# Altium integrated library National Semiconductor Switcher.IntLib: 2226 symbols (part 4 of 59)
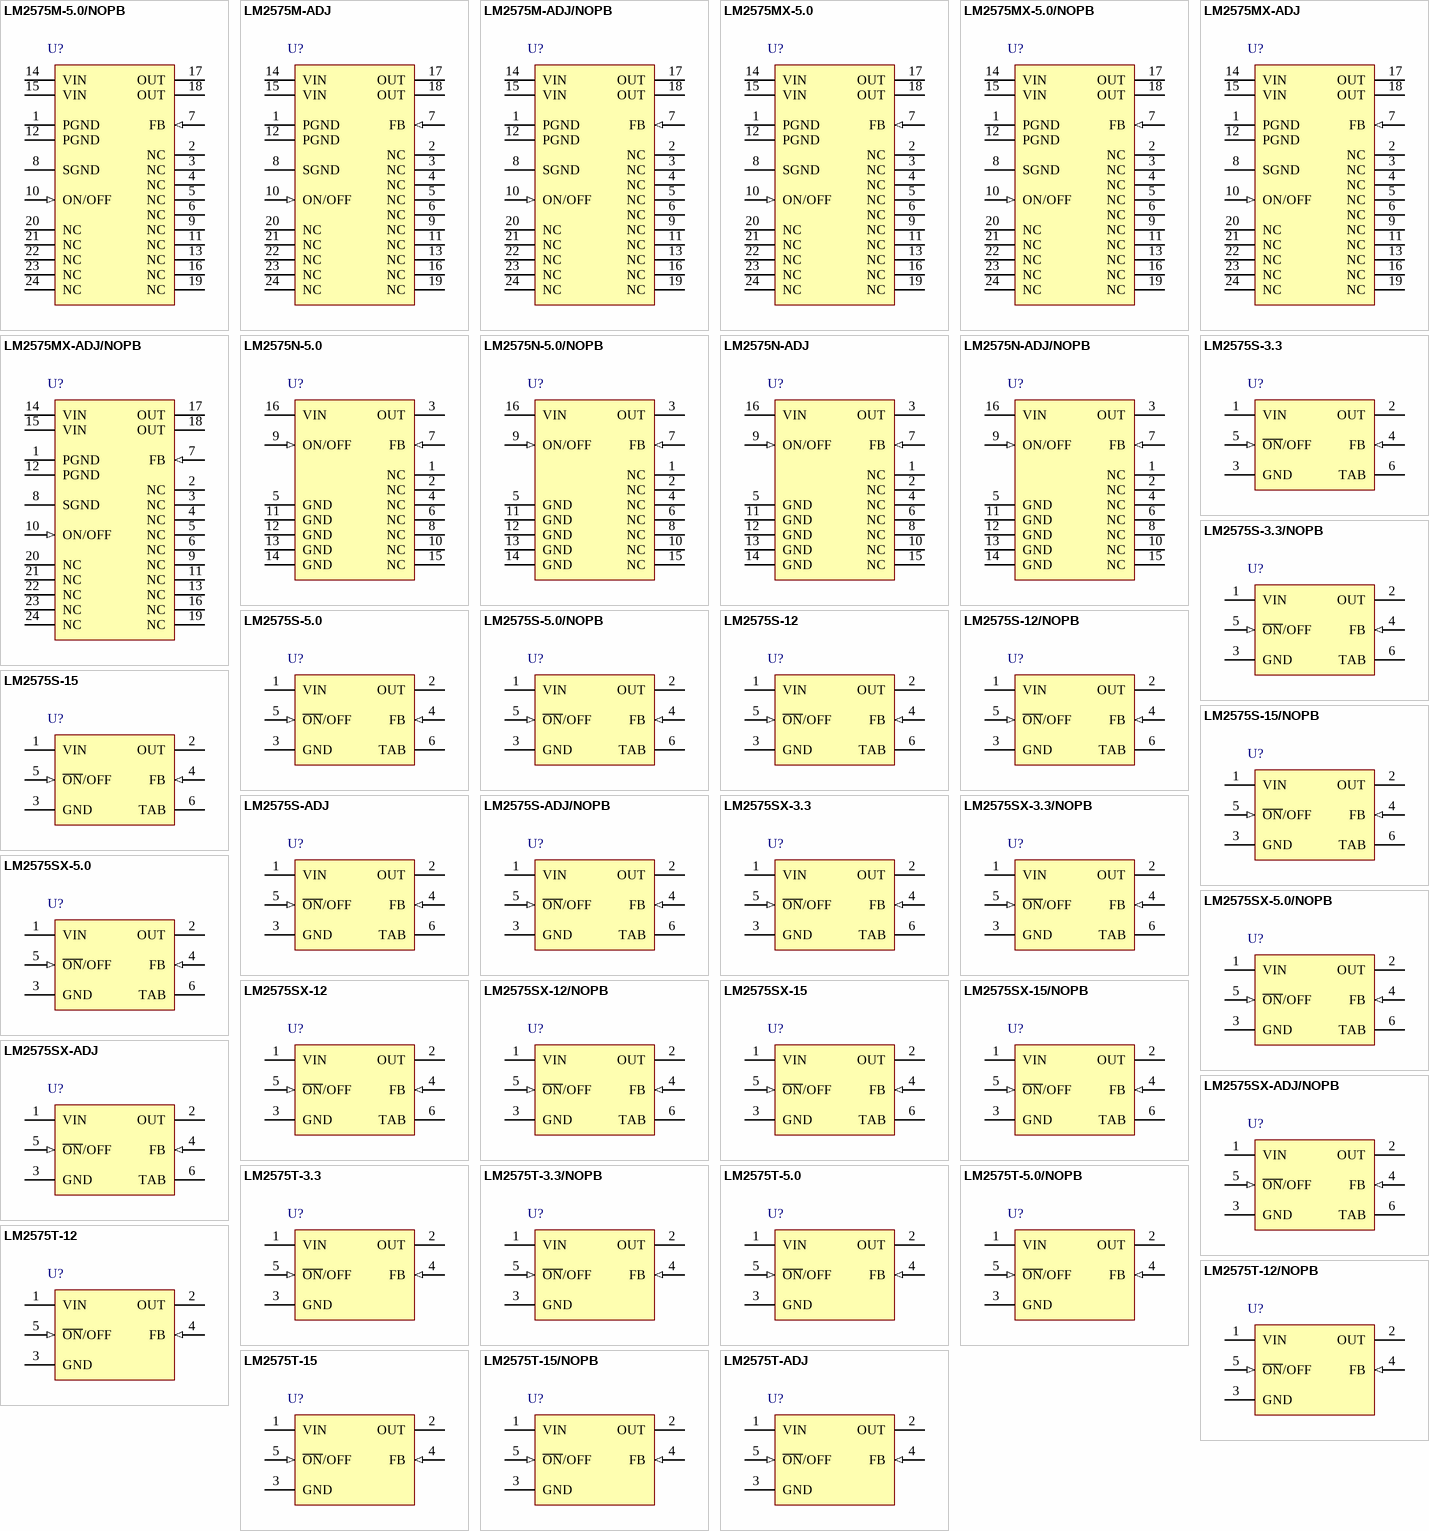
[diagram p72: symbols LM2575M-5.0/NOPB to LM2575T-ADJ]

## LM2575MX-5.0
designator U?
SIMPLE SWITCHER® 1A Step-Down Voltage Regulator, 24-pin Wide SOIC; PartNumber: LM2575MX-5.0; Manufacturer: National Semiconductor; PackageTopMarking: NSUZXYTTE#*LM2575M*-5.0 P+; PowerWise: N; High-Reliability: Y; DatasheetVersion: Apr-2007; PackageVersion: revF, Apr-1990; PackageReference: M24B; PackageDescription: Molded Package, S.O., .300in Wide, 24 Lead; RoHS: N; PinCount: 24; CompType: Switcher; ComponentLink1Description: Manufacturer URL; ComponentLink1URL: http://www.national.com/; ComponentLink2Description: LM2575 Datasheet; ComponentLink2URL: http://www.national.com/ds/LM/LM2575.pdf; ComponentLink3Description: LM2575 Web Page; ComponentLink3URL: http://www.national.com/pf/LM/LM2575.html; ComponentLink4Description: M24B Package Page; ComponentLink4URL: http://www.national.com/packaging/folders/m24b.html
footprint M24B_N (SOIC, 24-Leads, Body 15.4x7.5mm, Pitch 1.27mm, IPC Medium Density)
footprint M24B_L (SOIC, 24-Leads, Body 15.4x7.5mm, Pitch 1.27mm, IPC High Density)
footprint M24B_M (SOIC, 24-Leads, Body 15.4x7.5mm, Pitch 1.27mm, IPC Low Density)
pins: 1 PGND (power), 2 NC, 3 NC, 4 NC, 5 NC, 6 NC, 7 FB (in), 8 SGND (power), 9 NC, 10 ON/OFF (in), 11 NC, 12 PGND (power), 13 NC, 14 VIN (power), 15 VIN (power), 16 NC, 17 OUT (power), 18 OUT (power), 19 NC, 20 NC, 21 NC, 22 NC, 23 NC, 24 NC

## LM2575MX-5.0/NOPB
designator U?
SIMPLE SWITCHER® 1A Step-Down Voltage Regulator, 24-pin Wide SOIC, Pb-Free; PartNumber: LM2575MX-5.0/NOPB; Manufacturer: National Semiconductor; PackageTopMarking: NSUZXYTTE#*LM2575M*-5.0 P+; PowerWise: N; High-Reliability: Y; DatasheetVersion: Apr-2007; PackageVersion: revF, Apr-1990; PackageReference: M24B; PackageDescription: Molded Package, S.O., .300in Wide, 24 Lead; RoHS: Y; PinCount: 24; CompType: Switcher; ComponentLink1Description: Manufacturer URL; ComponentLink1URL: http://www.national.com/; ComponentLink2Description: LM2575 Datasheet; ComponentLink2URL: http://www.national.com/ds/LM/LM2575.pdf; ComponentLink3Description: LM2575 Web Page; ComponentLink3URL: http://www.national.com/pf/LM/LM2575.html; ComponentLink4Description: M24B Package Page; ComponentLink4URL: http://www.national.com/packaging/folders/m24b.html
footprint M24B_N (SOIC, 24-Leads, Body 15.4x7.5mm, Pitch 1.27mm, IPC Medium Density)
footprint M24B_L (SOIC, 24-Leads, Body 15.4x7.5mm, Pitch 1.27mm, IPC High Density)
footprint M24B_M (SOIC, 24-Leads, Body 15.4x7.5mm, Pitch 1.27mm, IPC Low Density)
pins: 1 PGND (power), 2 NC, 3 NC, 4 NC, 5 NC, 6 NC, 7 FB (in), 8 SGND (power), 9 NC, 10 ON/OFF (in), 11 NC, 12 PGND (power), 13 NC, 14 VIN (power), 15 VIN (power), 16 NC, 17 OUT (power), 18 OUT (power), 19 NC, 20 NC, 21 NC, 22 NC, 23 NC, 24 NC

## LM2575MX-ADJ
designator U?
SIMPLE SWITCHER® 1A Step-Down Voltage Regulator, 24-pin Wide SOIC; PartNumber: LM2575MX-ADJ; Manufacturer: National Semiconductor; PackageTopMarking: NSUZXYTTE#*LM2575M*-ADJ P+; PowerWise: N; High-Reliability: Y; DatasheetVersion: Apr-2007; PackageVersion: revF, Apr-1990; PackageReference: M24B; PackageDescription: Molded Package, S.O., .300in Wide, 24 Lead; RoHS: N; PinCount: 24; CompType: Switcher; ComponentLink1Description: Manufacturer URL; ComponentLink1URL: http://www.national.com/; ComponentLink2Description: LM2575 Datasheet; ComponentLink2URL: http://www.national.com/ds/LM/LM2575.pdf; ComponentLink3Description: LM2575 Web Page; ComponentLink3URL: http://www.national.com/pf/LM/LM2575.html; ComponentLink4Description: M24B Package Page; ComponentLink4URL: http://www.national.com/packaging/folders/m24b.html
footprint M24B_N (SOIC, 24-Leads, Body 15.4x7.5mm, Pitch 1.27mm, IPC Medium Density)
footprint M24B_L (SOIC, 24-Leads, Body 15.4x7.5mm, Pitch 1.27mm, IPC High Density)
footprint M24B_M (SOIC, 24-Leads, Body 15.4x7.5mm, Pitch 1.27mm, IPC Low Density)
pins: 1 PGND (power), 2 NC, 3 NC, 4 NC, 5 NC, 6 NC, 7 FB (in), 8 SGND (power), 9 NC, 10 ON/OFF (in), 11 NC, 12 PGND (power), 13 NC, 14 VIN (power), 15 VIN (power), 16 NC, 17 OUT (power), 18 OUT (power), 19 NC, 20 NC, 21 NC, 22 NC, 23 NC, 24 NC

## LM2575MX-ADJ/NOPB
designator U?
SIMPLE SWITCHER® 1A Step-Down Voltage Regulator, 24-pin Wide SOIC, Pb-Free; PartNumber: LM2575MX-ADJ/NOPB; Manufacturer: National Semiconductor; PackageTopMarking: NSUZXYTTE#*LM2575M*-ADJ P+; PowerWise: N; High-Reliability: Y; DatasheetVersion: Apr-2007; PackageVersion: revF, Apr-1990; PackageReference: M24B; PackageDescription: Molded Package, S.O., .300in Wide, 24 Lead; RoHS: Y; PinCount: 24; CompType: Switcher; ComponentLink1Description: Manufacturer URL; ComponentLink1URL: http://www.national.com/; ComponentLink2Description: LM2575 Datasheet; ComponentLink2URL: http://www.national.com/ds/LM/LM2575.pdf; ComponentLink3Description: LM2575 Web Page; ComponentLink3URL: http://www.national.com/pf/LM/LM2575.html; ComponentLink4Description: M24B Package Page; ComponentLink4URL: http://www.national.com/packaging/folders/m24b.html
footprint M24B_N (SOIC, 24-Leads, Body 15.4x7.5mm, Pitch 1.27mm, IPC Medium Density)
footprint M24B_L (SOIC, 24-Leads, Body 15.4x7.5mm, Pitch 1.27mm, IPC High Density)
footprint M24B_M (SOIC, 24-Leads, Body 15.4x7.5mm, Pitch 1.27mm, IPC Low Density)
pins: 1 PGND (power), 2 NC, 3 NC, 4 NC, 5 NC, 6 NC, 7 FB (in), 8 SGND (power), 9 NC, 10 ON/OFF (in), 11 NC, 12 PGND (power), 13 NC, 14 VIN (power), 15 VIN (power), 16 NC, 17 OUT (power), 18 OUT (power), 19 NC, 20 NC, 21 NC, 22 NC, 23 NC, 24 NC

## LM2575N-5.0
designator U?
SIMPLE SWITCHER® 1A Step-Down Voltage Regulator, 16-pin MDIP; PartNumber: LM2575N-5.0; Manufacturer: National Semiconductor; PackageTopMarking: NSUZXYYTTE#*LM2575N*-5.0 P+; PowerWise: N; High-Reliability: Y; DatasheetVersion: Apr-2007; PackageVersion: revB, Feb-1989; PackageReference: N16G; PackageDescription: Molded Dip (N), 16 Lead, 15 Mil Power Package; RoHS: N; PinCount: 16; CompType: Switcher; ComponentLink1Description: Manufacturer URL; ComponentLink1URL: http://www.national.com/; ComponentLink2Description: LM2575 Datasheet; ComponentLink2URL: http://www.national.com/ds/LM/LM2575.pdf; ComponentLink3Description: LM2575 Web Page; ComponentLink3URL: http://www.national.com/pf/LM/LM2575.html; ComponentLink4Description: N16G Package Page; ComponentLink4URL: http://www.national.com/packaging/folders/n16g.html
footprint N16G (DIP, 16-Leads, Row Spacing 7.62mm, Pitch 2.54mm, Body 21.76x6.35mm)
pins: 1 NC, 2 NC, 3 OUT (power), 4 NC, 5 GND (power), 6 NC, 7 FB (in), 8 NC, 9 ON/OFF (in), 10 NC, 11 GND (power), 12 GND (power), 13 GND (power), 14 GND (power), 15 NC, 16 VIN (power)

## LM2575N-5.0/NOPB
designator U?
SIMPLE SWITCHER® 1A Step-Down Voltage Regulator, 16-pin MDIP, Pb-Free; PartNumber: LM2575N-5.0/NOPB; Manufacturer: National Semiconductor; PackageTopMarking: NSUZXYYTTE#*LM2575N*-5.0 P+; PowerWise: N; High-Reliability: Y; DatasheetVersion: Apr-2007; PackageVersion: revB, Feb-1989; PackageReference: N16G; PackageDescription: Molded Dip (N), 16 Lead, 15 Mil Power Package; RoHS: Y; PinCount: 16; CompType: Switcher; ComponentLink1Description: Manufacturer URL; ComponentLink1URL: http://www.national.com/; ComponentLink2Description: LM2575 Datasheet; ComponentLink2URL: http://www.national.com/ds/LM/LM2575.pdf; ComponentLink3Description: LM2575 Web Page; ComponentLink3URL: http://www.national.com/pf/LM/LM2575.html; ComponentLink4Description: N16G Package Page; ComponentLink4URL: http://www.national.com/packaging/folders/n16g.html
footprint N16G (DIP, 16-Leads, Row Spacing 7.62mm, Pitch 2.54mm, Body 21.76x6.35mm)
pins: 1 NC, 2 NC, 3 OUT (power), 4 NC, 5 GND (power), 6 NC, 7 FB (in), 8 NC, 9 ON/OFF (in), 10 NC, 11 GND (power), 12 GND (power), 13 GND (power), 14 GND (power), 15 NC, 16 VIN (power)

## LM2575N-ADJ
designator U?
SIMPLE SWITCHER® 1A Step-Down Voltage Regulator, 16-pin MDIP; PartNumber: LM2575N-ADJ; Manufacturer: National Semiconductor; PackageTopMarking: NSUZXYYTTE#*LM2575N*-ADJ P+; PowerWise: N; High-Reliability: Y; DatasheetVersion: Apr-2007; PackageVersion: revB, Feb-1989; PackageReference: N16G; PackageDescription: Molded Dip (N), 16 Lead, 15 Mil Power Package; RoHS: N; PinCount: 16; CompType: Switcher; ComponentLink1Description: Manufacturer URL; ComponentLink1URL: http://www.national.com/; ComponentLink2Description: LM2575 Datasheet; ComponentLink2URL: http://www.national.com/ds/LM/LM2575.pdf; ComponentLink3Description: LM2575 Web Page; ComponentLink3URL: http://www.national.com/pf/LM/LM2575.html; ComponentLink4Description: N16G Package Page; ComponentLink4URL: http://www.national.com/packaging/folders/n16g.html
footprint N16G (DIP, 16-Leads, Row Spacing 7.62mm, Pitch 2.54mm, Body 21.76x6.35mm)
pins: 1 NC, 2 NC, 3 OUT (power), 4 NC, 5 GND (power), 6 NC, 7 FB (in), 8 NC, 9 ON/OFF (in), 10 NC, 11 GND (power), 12 GND (power), 13 GND (power), 14 GND (power), 15 NC, 16 VIN (power)

## LM2575N-ADJ/NOPB
designator U?
SIMPLE SWITCHER® 1A Step-Down Voltage Regulator, 16-pin MDIP, Pb-Free; PartNumber: LM2575N-ADJ/NOPB; Manufacturer: National Semiconductor; PackageTopMarking: NSUZXYYTTE#*LM2575N*-ADJ P+; PowerWise: N; High-Reliability: Y; DatasheetVersion: Apr-2007; PackageVersion: revB, Feb-1989; PackageReference: N16G; PackageDescription: Molded Dip (N), 16 Lead, 15 Mil Power Package; RoHS: Y; PinCount: 16; CompType: Switcher; ComponentLink1Description: Manufacturer URL; ComponentLink1URL: http://www.national.com/; ComponentLink2Description: LM2575 Datasheet; ComponentLink2URL: http://www.national.com/ds/LM/LM2575.pdf; ComponentLink3Description: LM2575 Web Page; ComponentLink3URL: http://www.national.com/pf/LM/LM2575.html; ComponentLink4Description: N16G Package Page; ComponentLink4URL: http://www.national.com/packaging/folders/n16g.html
footprint N16G (DIP, 16-Leads, Row Spacing 7.62mm, Pitch 2.54mm, Body 21.76x6.35mm)
pins: 1 NC, 2 NC, 3 OUT (power), 4 NC, 5 GND (power), 6 NC, 7 FB (in), 8 NC, 9 ON/OFF (in), 10 NC, 11 GND (power), 12 GND (power), 13 GND (power), 14 GND (power), 15 NC, 16 VIN (power)

## LM2575S-3.3
designator U?
SIMPLE SWITCHER® 1A Step-Down Voltage Regulator, 5-pin TO-263; PartNumber: LM2575S-3.3; Manufacturer: National Semiconductor; PackageTopMarking: NSUZXYTTE#*LM2575S*-3.3 P+; PowerWise: N; High-Reliability: Y; DatasheetVersion: Apr-2007; PackageVersion: revD, Apr-2005; PackageReference: TS5B; PackageDescription: TO-263, Molded, .400 x .390 x .180in, 5 Lead, .067in Pitch, Surface Mount; RoHS: N; PinCount: 5; CompType: Switcher; Code_JEDEC: MO-169-AB; ComponentLink1Description: Manufacturer URL; ComponentLink1URL: http://www.national.com/; ComponentLink2Description: LM2575 Datasheet; ComponentLink2URL: http://www.national.com/ds/LM/LM2575.pdf; ComponentLink3Description: LM2575 Web Page; ComponentLink3URL: http://www.national.com/pf/LM/LM2575.html; ComponentLink4Description: TS5B Package Page; ComponentLink4URL: http://www.national.com/packaging/folders/ts5b.html
footprint TS5B_N (D2-PAK, 6-Leads, Body 8.6x10.2mm, Pitch 1.7mm, Lead Span 14.1mm, IPC Medium Density)
footprint TS5B_L (D2-PAK, 6-Leads, Body 8.6x10.2mm, Pitch 1.7mm, Lead Span 14.1mm, IPC High Density)
footprint TS5B_M (D2-PAK, 6-Leads, Body 8.6x10.2mm, Pitch 1.7mm, Lead Span 14.1mm, IPC Low Density)
pins: 1 VIN (power), 2 OUT (power), 3 GND (power), 4 FB (in), 5 ~{ON}/OFF (in), 6 TAB (power)

## LM2575S-3.3/NOPB
designator U?
SIMPLE SWITCHER® 1A Step-Down Voltage Regulator, 5-pin TO-263, Pb-Free; PartNumber: LM2575S-3.3/NOPB; Manufacturer: National Semiconductor; PackageTopMarking: NSUZXYTTE#*LM2575S*-3.3 P+; PowerWise: N; High-Reliability: Y; DatasheetVersion: Apr-2007; PackageVersion: revD, Apr-2005; PackageReference: TS5B; PackageDescription: TO-263, Molded, .400 x .390 x .180in, 5 Lead, .067in Pitch, Surface Mount; RoHS: Y; PinCount: 5; CompType: Switcher; Code_JEDEC: MO-169-AB; ComponentLink1Description: Manufacturer URL; ComponentLink1URL: http://www.national.com/; ComponentLink2Description: LM2575 Datasheet; ComponentLink2URL: http://www.national.com/ds/LM/LM2575.pdf; ComponentLink3Description: LM2575 Web Page; ComponentLink3URL: http://www.national.com/pf/LM/LM2575.html; ComponentLink4Description: TS5B Package Page; ComponentLink4URL: http://www.national.com/packaging/folders/ts5b.html
footprint TS5B_N (D2-PAK, 6-Leads, Body 8.6x10.2mm, Pitch 1.7mm, Lead Span 14.1mm, IPC Medium Density)
footprint TS5B_L (D2-PAK, 6-Leads, Body 8.6x10.2mm, Pitch 1.7mm, Lead Span 14.1mm, IPC High Density)
footprint TS5B_M (D2-PAK, 6-Leads, Body 8.6x10.2mm, Pitch 1.7mm, Lead Span 14.1mm, IPC Low Density)
pins: 1 VIN (power), 2 OUT (power), 3 GND (power), 4 FB (in), 5 ~{ON}/OFF (in), 6 TAB (power)

## LM2575S-5.0
designator U?
SIMPLE SWITCHER® 1A Step-Down Voltage Regulator, 5-pin TO-263; PartNumber: LM2575S-5.0; Manufacturer: National Semiconductor; PackageTopMarking: NSUZXYTTE#*LM2575S*-5.0 P+; PowerWise: N; High-Reliability: Y; DatasheetVersion: Apr-2007; PackageVersion: revD, Apr-2005; PackageReference: TS5B; PackageDescription: TO-263, Molded, .400 x .390 x .180in, 5 Lead, .067in Pitch, Surface Mount; RoHS: N; PinCount: 5; CompType: Switcher; Code_JEDEC: MO-169-AB; ComponentLink1Description: Manufacturer URL; ComponentLink1URL: http://www.national.com/; ComponentLink2Description: LM2575 Datasheet; ComponentLink2URL: http://www.national.com/ds/LM/LM2575.pdf; ComponentLink3Description: LM2575 Web Page; ComponentLink3URL: http://www.national.com/pf/LM/LM2575.html; ComponentLink4Description: TS5B Package Page; ComponentLink4URL: http://www.national.com/packaging/folders/ts5b.html
footprint TS5B_N (D2-PAK, 6-Leads, Body 8.6x10.2mm, Pitch 1.7mm, Lead Span 14.1mm, IPC Medium Density)
footprint TS5B_L (D2-PAK, 6-Leads, Body 8.6x10.2mm, Pitch 1.7mm, Lead Span 14.1mm, IPC High Density)
footprint TS5B_M (D2-PAK, 6-Leads, Body 8.6x10.2mm, Pitch 1.7mm, Lead Span 14.1mm, IPC Low Density)
pins: 1 VIN (power), 2 OUT (power), 3 GND (power), 4 FB (in), 5 ~{ON}/OFF (in), 6 TAB (power)

## LM2575S-5.0/NOPB
designator U?
SIMPLE SWITCHER® 1A Step-Down Voltage Regulator, 5-pin TO-263, Pb-Free; PartNumber: LM2575S-5.0/NOPB; Manufacturer: National Semiconductor; PackageTopMarking: NSUZXYTTE#*LM2575S*-5.0 P+; PowerWise: N; High-Reliability: Y; DatasheetVersion: Apr-2007; PackageVersion: revD, Apr-2005; PackageReference: TS5B; PackageDescription: TO-263, Molded, .400 x .390 x .180in, 5 Lead, .067in Pitch, Surface Mount; RoHS: Y; PinCount: 5; CompType: Switcher; Code_JEDEC: MO-169-AB; ComponentLink1Description: Manufacturer URL; ComponentLink1URL: http://www.national.com/; ComponentLink2Description: LM2575 Datasheet; ComponentLink2URL: http://www.national.com/ds/LM/LM2575.pdf; ComponentLink3Description: LM2575 Web Page; ComponentLink3URL: http://www.national.com/pf/LM/LM2575.html; ComponentLink4Description: TS5B Package Page; ComponentLink4URL: http://www.national.com/packaging/folders/ts5b.html
footprint TS5B_N (D2-PAK, 6-Leads, Body 8.6x10.2mm, Pitch 1.7mm, Lead Span 14.1mm, IPC Medium Density)
footprint TS5B_L (D2-PAK, 6-Leads, Body 8.6x10.2mm, Pitch 1.7mm, Lead Span 14.1mm, IPC High Density)
footprint TS5B_M (D2-PAK, 6-Leads, Body 8.6x10.2mm, Pitch 1.7mm, Lead Span 14.1mm, IPC Low Density)
pins: 1 VIN (power), 2 OUT (power), 3 GND (power), 4 FB (in), 5 ~{ON}/OFF (in), 6 TAB (power)

## LM2575S-12
designator U?
SIMPLE SWITCHER® 1A Step-Down Voltage Regulator, 5-pin TO-263; PartNumber: LM2575S-12; Manufacturer: National Semiconductor; PackageTopMarking: NSUZXYTTE#*LM2575S*-12 P+; PowerWise: N; High-Reliability: Y; DatasheetVersion: Apr-2007; PackageVersion: revD, Apr-2005; PackageReference: TS5B; PackageDescription: TO-263, Molded, .400 x .390 x .180in, 5 Lead, .067in Pitch, Surface Mount; RoHS: N; PinCount: 5; CompType: Switcher; Code_JEDEC: MO-169-AB; ComponentLink1Description: Manufacturer URL; ComponentLink1URL: http://www.national.com/; ComponentLink2Description: LM2575 Datasheet; ComponentLink2URL: http://www.national.com/ds/LM/LM2575.pdf; ComponentLink3Description: LM2575 Web Page; ComponentLink3URL: http://www.national.com/pf/LM/LM2575.html; ComponentLink4Description: TS5B Package Page; ComponentLink4URL: http://www.national.com/packaging/folders/ts5b.html
footprint TS5B_N (D2-PAK, 6-Leads, Body 8.6x10.2mm, Pitch 1.7mm, Lead Span 14.1mm, IPC Medium Density)
footprint TS5B_L (D2-PAK, 6-Leads, Body 8.6x10.2mm, Pitch 1.7mm, Lead Span 14.1mm, IPC High Density)
footprint TS5B_M (D2-PAK, 6-Leads, Body 8.6x10.2mm, Pitch 1.7mm, Lead Span 14.1mm, IPC Low Density)
pins: 1 VIN (power), 2 OUT (power), 3 GND (power), 4 FB (in), 5 ~{ON}/OFF (in), 6 TAB (power)

## LM2575S-12/NOPB
designator U?
SIMPLE SWITCHER® 1A Step-Down Voltage Regulator, 5-pin TO-263, Pb-Free; PartNumber: LM2575S-12/NOPB; Manufacturer: National Semiconductor; PackageTopMarking: NSUZXYTTE#*LM2575S*-12 P+; PowerWise: N; High-Reliability: Y; DatasheetVersion: Apr-2007; PackageVersion: revD, Apr-2005; PackageReference: TS5B; PackageDescription: TO-263, Molded, .400 x .390 x .180in, 5 Lead, .067in Pitch, Surface Mount; RoHS: Y; PinCount: 5; CompType: Switcher; Code_JEDEC: MO-169-AB; ComponentLink1Description: Manufacturer URL; ComponentLink1URL: http://www.national.com/; ComponentLink2Description: LM2575 Datasheet; ComponentLink2URL: http://www.national.com/ds/LM/LM2575.pdf; ComponentLink3Description: LM2575 Web Page; ComponentLink3URL: http://www.national.com/pf/LM/LM2575.html; ComponentLink4Description: TS5B Package Page; ComponentLink4URL: http://www.national.com/packaging/folders/ts5b.html
footprint TS5B_N (D2-PAK, 6-Leads, Body 8.6x10.2mm, Pitch 1.7mm, Lead Span 14.1mm, IPC Medium Density)
footprint TS5B_L (D2-PAK, 6-Leads, Body 8.6x10.2mm, Pitch 1.7mm, Lead Span 14.1mm, IPC High Density)
footprint TS5B_M (D2-PAK, 6-Leads, Body 8.6x10.2mm, Pitch 1.7mm, Lead Span 14.1mm, IPC Low Density)
pins: 1 VIN (power), 2 OUT (power), 3 GND (power), 4 FB (in), 5 ~{ON}/OFF (in), 6 TAB (power)

## LM2575S-15
designator U?
SIMPLE SWITCHER® 1A Step-Down Voltage Regulator, 5-pin TO-263; PartNumber: LM2575S-15; Manufacturer: National Semiconductor; PackageTopMarking: NSUZXYTTE#*LM2575S*-15 P+; PowerWise: N; High-Reliability: Y; DatasheetVersion: Apr-2007; PackageVersion: revD, Apr-2005; PackageReference: TS5B; PackageDescription: TO-263, Molded, .400 x .390 x .180in, 5 Lead, .067in Pitch, Surface Mount; RoHS: N; PinCount: 5; CompType: Switcher; Code_JEDEC: MO-169-AB; ComponentLink1Description: Manufacturer URL; ComponentLink1URL: http://www.national.com/; ComponentLink2Description: LM2575 Datasheet; ComponentLink2URL: http://www.national.com/ds/LM/LM2575.pdf; ComponentLink3Description: LM2575 Web Page; ComponentLink3URL: http://www.national.com/pf/LM/LM2575.html; ComponentLink4Description: TS5B Package Page; ComponentLink4URL: http://www.national.com/packaging/folders/ts5b.html
footprint TS5B_N (D2-PAK, 6-Leads, Body 8.6x10.2mm, Pitch 1.7mm, Lead Span 14.1mm, IPC Medium Density)
footprint TS5B_L (D2-PAK, 6-Leads, Body 8.6x10.2mm, Pitch 1.7mm, Lead Span 14.1mm, IPC High Density)
footprint TS5B_M (D2-PAK, 6-Leads, Body 8.6x10.2mm, Pitch 1.7mm, Lead Span 14.1mm, IPC Low Density)
pins: 1 VIN (power), 2 OUT (power), 3 GND (power), 4 FB (in), 5 ~{ON}/OFF (in), 6 TAB (power)

## LM2575S-15/NOPB
designator U?
SIMPLE SWITCHER® 1A Step-Down Voltage Regulator, 5-pin TO-263, Pb-Free; PartNumber: LM2575S-15/NOPB; Manufacturer: National Semiconductor; PackageTopMarking: NSUZXYTTE#*LM2575S*-15 P+; PowerWise: N; High-Reliability: Y; DatasheetVersion: Apr-2007; PackageVersion: revD, Apr-2005; PackageReference: TS5B; PackageDescription: TO-263, Molded, .400 x .390 x .180in, 5 Lead, .067in Pitch, Surface Mount; RoHS: Y; PinCount: 5; CompType: Switcher; Code_JEDEC: MO-169-AB; ComponentLink1Description: Manufacturer URL; ComponentLink1URL: http://www.national.com/; ComponentLink2Description: LM2575 Datasheet; ComponentLink2URL: http://www.national.com/ds/LM/LM2575.pdf; ComponentLink3Description: LM2575 Web Page; ComponentLink3URL: http://www.national.com/pf/LM/LM2575.html; ComponentLink4Description: TS5B Package Page; ComponentLink4URL: http://www.national.com/packaging/folders/ts5b.html
footprint TS5B_N (D2-PAK, 6-Leads, Body 8.6x10.2mm, Pitch 1.7mm, Lead Span 14.1mm, IPC Medium Density)
footprint TS5B_L (D2-PAK, 6-Leads, Body 8.6x10.2mm, Pitch 1.7mm, Lead Span 14.1mm, IPC High Density)
footprint TS5B_M (D2-PAK, 6-Leads, Body 8.6x10.2mm, Pitch 1.7mm, Lead Span 14.1mm, IPC Low Density)
pins: 1 VIN (power), 2 OUT (power), 3 GND (power), 4 FB (in), 5 ~{ON}/OFF (in), 6 TAB (power)

## LM2575S-ADJ
designator U?
SIMPLE SWITCHER® 1A Step-Down Voltage Regulator, 5-pin TO-263; PartNumber: LM2575S-ADJ; Manufacturer: National Semiconductor; PackageTopMarking: NSUZXYTTE#*LM2575S*-ADJ P+; PowerWise: N; High-Reliability: Y; DatasheetVersion: Apr-2007; PackageVersion: revD, Apr-2005; PackageReference: TS5B; PackageDescription: TO-263, Molded, .400 x .390 x .180in, 5 Lead, .067in Pitch, Surface Mount; RoHS: N; PinCount: 5; CompType: Switcher; Code_JEDEC: MO-169-AB; ComponentLink1Description: Manufacturer URL; ComponentLink1URL: http://www.national.com/; ComponentLink2Description: LM2575 Datasheet; ComponentLink2URL: http://www.national.com/ds/LM/LM2575.pdf; ComponentLink3Description: LM2575 Web Page; ComponentLink3URL: http://www.national.com/pf/LM/LM2575.html; ComponentLink4Description: TS5B Package Page; ComponentLink4URL: http://www.national.com/packaging/folders/ts5b.html
footprint TS5B_N (D2-PAK, 6-Leads, Body 8.6x10.2mm, Pitch 1.7mm, Lead Span 14.1mm, IPC Medium Density)
footprint TS5B_L (D2-PAK, 6-Leads, Body 8.6x10.2mm, Pitch 1.7mm, Lead Span 14.1mm, IPC High Density)
footprint TS5B_M (D2-PAK, 6-Leads, Body 8.6x10.2mm, Pitch 1.7mm, Lead Span 14.1mm, IPC Low Density)
pins: 1 VIN (power), 2 OUT (power), 3 GND (power), 4 FB (in), 5 ~{ON}/OFF (in), 6 TAB (power)

## LM2575S-ADJ/NOPB
designator U?
SIMPLE SWITCHER® 1A Step-Down Voltage Regulator, 5-pin TO-263, Pb-Free; PartNumber: LM2575S-ADJ/NOPB; Manufacturer: National Semiconductor; PackageTopMarking: NSUZXYTTE#*LM2575S*-ADJ P+; PowerWise: N; High-Reliability: Y; DatasheetVersion: Apr-2007; PackageVersion: revD, Apr-2005; PackageReference: TS5B; PackageDescription: TO-263, Molded, .400 x .390 x .180in, 5 Lead, .067in Pitch, Surface Mount; RoHS: Y; PinCount: 5; CompType: Switcher; Code_JEDEC: MO-169-AB; ComponentLink1Description: Manufacturer URL; ComponentLink1URL: http://www.national.com/; ComponentLink2Description: LM2575 Datasheet; ComponentLink2URL: http://www.national.com/ds/LM/LM2575.pdf; ComponentLink3Description: LM2575 Web Page; ComponentLink3URL: http://www.national.com/pf/LM/LM2575.html; ComponentLink4Description: TS5B Package Page; ComponentLink4URL: http://www.national.com/packaging/folders/ts5b.html
footprint TS5B_N (D2-PAK, 6-Leads, Body 8.6x10.2mm, Pitch 1.7mm, Lead Span 14.1mm, IPC Medium Density)
footprint TS5B_L (D2-PAK, 6-Leads, Body 8.6x10.2mm, Pitch 1.7mm, Lead Span 14.1mm, IPC High Density)
footprint TS5B_M (D2-PAK, 6-Leads, Body 8.6x10.2mm, Pitch 1.7mm, Lead Span 14.1mm, IPC Low Density)
pins: 1 VIN (power), 2 OUT (power), 3 GND (power), 4 FB (in), 5 ~{ON}/OFF (in), 6 TAB (power)

## LM2575SX-3.3
designator U?
SIMPLE SWITCHER® 1A Step-Down Voltage Regulator, 5-pin TO-263; PartNumber: LM2575SX-3.3; Manufacturer: National Semiconductor; PackageTopMarking: NSUZXYTTE#*LM2575S*-3.3 P+; PowerWise: N; High-Reliability: Y; DatasheetVersion: Apr-2007; PackageVersion: revD, Apr-2005; PackageReference: TS5B; PackageDescription: TO-263, Molded, .400 x .390 x .180in, 5 Lead, .067in Pitch, Surface Mount; RoHS: N; PinCount: 5; CompType: Switcher; Code_JEDEC: MO-169-AB; ComponentLink1Description: Manufacturer URL; ComponentLink1URL: http://www.national.com/; ComponentLink2Description: LM2575 Datasheet; ComponentLink2URL: http://www.national.com/ds/LM/LM2575.pdf; ComponentLink3Description: LM2575 Web Page; ComponentLink3URL: http://www.national.com/pf/LM/LM2575.html; ComponentLink4Description: TS5B Package Page; ComponentLink4URL: http://www.national.com/packaging/folders/ts5b.html
footprint TS5B_N (D2-PAK, 6-Leads, Body 8.6x10.2mm, Pitch 1.7mm, Lead Span 14.1mm, IPC Medium Density)
footprint TS5B_L (D2-PAK, 6-Leads, Body 8.6x10.2mm, Pitch 1.7mm, Lead Span 14.1mm, IPC High Density)
footprint TS5B_M (D2-PAK, 6-Leads, Body 8.6x10.2mm, Pitch 1.7mm, Lead Span 14.1mm, IPC Low Density)
pins: 1 VIN (power), 2 OUT (power), 3 GND (power), 4 FB (in), 5 ~{ON}/OFF (in), 6 TAB (power)

## LM2575SX-3.3/NOPB
designator U?
SIMPLE SWITCHER® 1A Step-Down Voltage Regulator, 5-pin TO-263, Pb-Free; PartNumber: LM2575SX-3.3/NOPB; Manufacturer: National Semiconductor; PackageTopMarking: NSUZXYTTE#*LM2575S*-3.3 P+; PowerWise: N; High-Reliability: Y; DatasheetVersion: Apr-2007; PackageVersion: revD, Apr-2005; PackageReference: TS5B; PackageDescription: TO-263, Molded, .400 x .390 x .180in, 5 Lead, .067in Pitch, Surface Mount; RoHS: Y; PinCount: 5; CompType: Switcher; Code_JEDEC: MO-169-AB; ComponentLink1Description: Manufacturer URL; ComponentLink1URL: http://www.national.com/; ComponentLink2Description: LM2575 Datasheet; ComponentLink2URL: http://www.national.com/ds/LM/LM2575.pdf; ComponentLink3Description: LM2575 Web Page; ComponentLink3URL: http://www.national.com/pf/LM/LM2575.html; ComponentLink4Description: TS5B Package Page; ComponentLink4URL: http://www.national.com/packaging/folders/ts5b.html
footprint TS5B_N (D2-PAK, 6-Leads, Body 8.6x10.2mm, Pitch 1.7mm, Lead Span 14.1mm, IPC Medium Density)
footprint TS5B_L (D2-PAK, 6-Leads, Body 8.6x10.2mm, Pitch 1.7mm, Lead Span 14.1mm, IPC High Density)
footprint TS5B_M (D2-PAK, 6-Leads, Body 8.6x10.2mm, Pitch 1.7mm, Lead Span 14.1mm, IPC Low Density)
pins: 1 VIN (power), 2 OUT (power), 3 GND (power), 4 FB (in), 5 ~{ON}/OFF (in), 6 TAB (power)

## LM2575SX-5.0
designator U?
SIMPLE SWITCHER® 1A Step-Down Voltage Regulator, 5-pin TO-263; PartNumber: LM2575SX-5.0; Manufacturer: National Semiconductor; PackageTopMarking: NSUZXYTTE#*LM2575S*-5.0 P+; PowerWise: N; High-Reliability: Y; DatasheetVersion: Apr-2007; PackageVersion: revD, Apr-2005; PackageReference: TS5B; PackageDescription: TO-263, Molded, .400 x .390 x .180in, 5 Lead, .067in Pitch, Surface Mount; RoHS: N; PinCount: 5; CompType: Switcher; Code_JEDEC: MO-169-AB; ComponentLink1Description: Manufacturer URL; ComponentLink1URL: http://www.national.com/; ComponentLink2Description: LM2575 Datasheet; ComponentLink2URL: http://www.national.com/ds/LM/LM2575.pdf; ComponentLink3Description: LM2575 Web Page; ComponentLink3URL: http://www.national.com/pf/LM/LM2575.html; ComponentLink4Description: TS5B Package Page; ComponentLink4URL: http://www.national.com/packaging/folders/ts5b.html
footprint TS5B_N (D2-PAK, 6-Leads, Body 8.6x10.2mm, Pitch 1.7mm, Lead Span 14.1mm, IPC Medium Density)
footprint TS5B_L (D2-PAK, 6-Leads, Body 8.6x10.2mm, Pitch 1.7mm, Lead Span 14.1mm, IPC High Density)
footprint TS5B_M (D2-PAK, 6-Leads, Body 8.6x10.2mm, Pitch 1.7mm, Lead Span 14.1mm, IPC Low Density)
pins: 1 VIN (power), 2 OUT (power), 3 GND (power), 4 FB (in), 5 ~{ON}/OFF (in), 6 TAB (power)

## LM2575SX-5.0/NOPB
designator U?
SIMPLE SWITCHER® 1A Step-Down Voltage Regulator, 5-pin TO-263, Pb-Free; PartNumber: LM2575SX-5.0/NOPB; Manufacturer: National Semiconductor; PackageTopMarking: NSUZXYTTE#*LM2575S*-5.0 P+; PowerWise: N; High-Reliability: Y; DatasheetVersion: Apr-2007; PackageVersion: revD, Apr-2005; PackageReference: TS5B; PackageDescription: TO-263, Molded, .400 x .390 x .180in, 5 Lead, .067in Pitch, Surface Mount; RoHS: Y; PinCount: 5; CompType: Switcher; Code_JEDEC: MO-169-AB; ComponentLink1Description: Manufacturer URL; ComponentLink1URL: http://www.national.com/; ComponentLink2Description: LM2575 Datasheet; ComponentLink2URL: http://www.national.com/ds/LM/LM2575.pdf; ComponentLink3Description: LM2575 Web Page; ComponentLink3URL: http://www.national.com/pf/LM/LM2575.html; ComponentLink4Description: TS5B Package Page; ComponentLink4URL: http://www.national.com/packaging/folders/ts5b.html
footprint TS5B_N (D2-PAK, 6-Leads, Body 8.6x10.2mm, Pitch 1.7mm, Lead Span 14.1mm, IPC Medium Density)
footprint TS5B_L (D2-PAK, 6-Leads, Body 8.6x10.2mm, Pitch 1.7mm, Lead Span 14.1mm, IPC High Density)
footprint TS5B_M (D2-PAK, 6-Leads, Body 8.6x10.2mm, Pitch 1.7mm, Lead Span 14.1mm, IPC Low Density)
pins: 1 VIN (power), 2 OUT (power), 3 GND (power), 4 FB (in), 5 ~{ON}/OFF (in), 6 TAB (power)

## LM2575SX-12
designator U?
SIMPLE SWITCHER® 1A Step-Down Voltage Regulator, 5-pin TO-263; PartNumber: LM2575SX-12; Manufacturer: National Semiconductor; PackageTopMarking: NSUZXYTTE#*LM2575S*-12 P+; PowerWise: N; High-Reliability: Y; DatasheetVersion: Apr-2007; PackageVersion: revD, Apr-2005; PackageReference: TS5B; PackageDescription: TO-263, Molded, .400 x .390 x .180in, 5 Lead, .067in Pitch, Surface Mount; RoHS: N; PinCount: 5; CompType: Switcher; Code_JEDEC: MO-169-AB; ComponentLink1Description: Manufacturer URL; ComponentLink1URL: http://www.national.com/; ComponentLink2Description: LM2575 Datasheet; ComponentLink2URL: http://www.national.com/ds/LM/LM2575.pdf; ComponentLink3Description: LM2575 Web Page; ComponentLink3URL: http://www.national.com/pf/LM/LM2575.html; ComponentLink4Description: TS5B Package Page; ComponentLink4URL: http://www.national.com/packaging/folders/ts5b.html
footprint TS5B_N (D2-PAK, 6-Leads, Body 8.6x10.2mm, Pitch 1.7mm, Lead Span 14.1mm, IPC Medium Density)
footprint TS5B_L (D2-PAK, 6-Leads, Body 8.6x10.2mm, Pitch 1.7mm, Lead Span 14.1mm, IPC High Density)
footprint TS5B_M (D2-PAK, 6-Leads, Body 8.6x10.2mm, Pitch 1.7mm, Lead Span 14.1mm, IPC Low Density)
pins: 1 VIN (power), 2 OUT (power), 3 GND (power), 4 FB (in), 5 ~{ON}/OFF (in), 6 TAB (power)

## LM2575SX-12/NOPB
designator U?
SIMPLE SWITCHER® 1A Step-Down Voltage Regulator, 5-pin TO-263, Pb-Free; PartNumber: LM2575SX-12/NOPB; Manufacturer: National Semiconductor; PackageTopMarking: NSUZXYTTE#*LM2575S*-12 P+; PowerWise: N; High-Reliability: Y; DatasheetVersion: Apr-2007; PackageVersion: revD, Apr-2005; PackageReference: TS5B; PackageDescription: TO-263, Molded, .400 x .390 x .180in, 5 Lead, .067in Pitch, Surface Mount; RoHS: Y; PinCount: 5; CompType: Switcher; Code_JEDEC: MO-169-AB; ComponentLink1Description: Manufacturer URL; ComponentLink1URL: http://www.national.com/; ComponentLink2Description: LM2575 Datasheet; ComponentLink2URL: http://www.national.com/ds/LM/LM2575.pdf; ComponentLink3Description: LM2575 Web Page; ComponentLink3URL: http://www.national.com/pf/LM/LM2575.html; ComponentLink4Description: TS5B Package Page; ComponentLink4URL: http://www.national.com/packaging/folders/ts5b.html
footprint TS5B_N (D2-PAK, 6-Leads, Body 8.6x10.2mm, Pitch 1.7mm, Lead Span 14.1mm, IPC Medium Density)
footprint TS5B_L (D2-PAK, 6-Leads, Body 8.6x10.2mm, Pitch 1.7mm, Lead Span 14.1mm, IPC High Density)
footprint TS5B_M (D2-PAK, 6-Leads, Body 8.6x10.2mm, Pitch 1.7mm, Lead Span 14.1mm, IPC Low Density)
pins: 1 VIN (power), 2 OUT (power), 3 GND (power), 4 FB (in), 5 ~{ON}/OFF (in), 6 TAB (power)

## LM2575SX-15
designator U?
SIMPLE SWITCHER® 1A Step-Down Voltage Regulator, 5-pin TO-263; PartNumber: LM2575SX-15; Manufacturer: National Semiconductor; PackageTopMarking: NSUZXYTTE#*LM2575S*-15 P+; PowerWise: N; High-Reliability: Y; DatasheetVersion: Apr-2007; PackageVersion: revD, Apr-2005; PackageReference: TS5B; PackageDescription: TO-263, Molded, .400 x .390 x .180in, 5 Lead, .067in Pitch, Surface Mount; RoHS: N; PinCount: 5; CompType: Switcher; Code_JEDEC: MO-169-AB; ComponentLink1Description: Manufacturer URL; ComponentLink1URL: http://www.national.com/; ComponentLink2Description: LM2575 Datasheet; ComponentLink2URL: http://www.national.com/ds/LM/LM2575.pdf; ComponentLink3Description: LM2575 Web Page; ComponentLink3URL: http://www.national.com/pf/LM/LM2575.html; ComponentLink4Description: TS5B Package Page; ComponentLink4URL: http://www.national.com/packaging/folders/ts5b.html
footprint TS5B_N (D2-PAK, 6-Leads, Body 8.6x10.2mm, Pitch 1.7mm, Lead Span 14.1mm, IPC Medium Density)
footprint TS5B_L (D2-PAK, 6-Leads, Body 8.6x10.2mm, Pitch 1.7mm, Lead Span 14.1mm, IPC High Density)
footprint TS5B_M (D2-PAK, 6-Leads, Body 8.6x10.2mm, Pitch 1.7mm, Lead Span 14.1mm, IPC Low Density)
pins: 1 VIN (power), 2 OUT (power), 3 GND (power), 4 FB (in), 5 ~{ON}/OFF (in), 6 TAB (power)

## LM2575SX-15/NOPB
designator U?
SIMPLE SWITCHER® 1A Step-Down Voltage Regulator, 5-pin TO-263, Pb-Free; PartNumber: LM2575SX-15/NOPB; Manufacturer: National Semiconductor; PackageTopMarking: NSUZXYTTE#*LM2575S*-15 P+; PowerWise: N; High-Reliability: Y; DatasheetVersion: Apr-2007; PackageVersion: revD, Apr-2005; PackageReference: TS5B; PackageDescription: TO-263, Molded, .400 x .390 x .180in, 5 Lead, .067in Pitch, Surface Mount; RoHS: Y; PinCount: 5; CompType: Switcher; Code_JEDEC: MO-169-AB; ComponentLink1Description: Manufacturer URL; ComponentLink1URL: http://www.national.com/; ComponentLink2Description: LM2575 Datasheet; ComponentLink2URL: http://www.national.com/ds/LM/LM2575.pdf; ComponentLink3Description: LM2575 Web Page; ComponentLink3URL: http://www.national.com/pf/LM/LM2575.html; ComponentLink4Description: TS5B Package Page; ComponentLink4URL: http://www.national.com/packaging/folders/ts5b.html
footprint TS5B_N (D2-PAK, 6-Leads, Body 8.6x10.2mm, Pitch 1.7mm, Lead Span 14.1mm, IPC Medium Density)
footprint TS5B_L (D2-PAK, 6-Leads, Body 8.6x10.2mm, Pitch 1.7mm, Lead Span 14.1mm, IPC High Density)
footprint TS5B_M (D2-PAK, 6-Leads, Body 8.6x10.2mm, Pitch 1.7mm, Lead Span 14.1mm, IPC Low Density)
pins: 1 VIN (power), 2 OUT (power), 3 GND (power), 4 FB (in), 5 ~{ON}/OFF (in), 6 TAB (power)

## LM2575SX-ADJ
designator U?
SIMPLE SWITCHER® 1A Step-Down Voltage Regulator, 5-pin TO-263; PartNumber: LM2575SX-ADJ; Manufacturer: National Semiconductor; PackageTopMarking: NSUZXYTTE#*LM2575S*-ADJ P+; PowerWise: N; High-Reliability: Y; DatasheetVersion: Apr-2007; PackageVersion: revD, Apr-2005; PackageReference: TS5B; PackageDescription: TO-263, Molded, .400 x .390 x .180in, 5 Lead, .067in Pitch, Surface Mount; RoHS: N; PinCount: 5; CompType: Switcher; Code_JEDEC: MO-169-AB; ComponentLink1Description: Manufacturer URL; ComponentLink1URL: http://www.national.com/; ComponentLink2Description: LM2575 Datasheet; ComponentLink2URL: http://www.national.com/ds/LM/LM2575.pdf; ComponentLink3Description: LM2575 Web Page; ComponentLink3URL: http://www.national.com/pf/LM/LM2575.html; ComponentLink4Description: TS5B Package Page; ComponentLink4URL: http://www.national.com/packaging/folders/ts5b.html
footprint TS5B_N (D2-PAK, 6-Leads, Body 8.6x10.2mm, Pitch 1.7mm, Lead Span 14.1mm, IPC Medium Density)
footprint TS5B_L (D2-PAK, 6-Leads, Body 8.6x10.2mm, Pitch 1.7mm, Lead Span 14.1mm, IPC High Density)
footprint TS5B_M (D2-PAK, 6-Leads, Body 8.6x10.2mm, Pitch 1.7mm, Lead Span 14.1mm, IPC Low Density)
pins: 1 VIN (power), 2 OUT (power), 3 GND (power), 4 FB (in), 5 ~{ON}/OFF (in), 6 TAB (power)

## LM2575SX-ADJ/NOPB
designator U?
SIMPLE SWITCHER® 1A Step-Down Voltage Regulator, 5-pin TO-263, Pb-Free; PartNumber: LM2575SX-ADJ/NOPB; Manufacturer: National Semiconductor; PackageTopMarking: NSUZXYTTE#*LM2575S*-ADJ P+; PowerWise: N; High-Reliability: Y; DatasheetVersion: Apr-2007; PackageVersion: revD, Apr-2005; PackageReference: TS5B; PackageDescription: TO-263, Molded, .400 x .390 x .180in, 5 Lead, .067in Pitch, Surface Mount; RoHS: Y; PinCount: 5; CompType: Switcher; Code_JEDEC: MO-169-AB; ComponentLink1Description: Manufacturer URL; ComponentLink1URL: http://www.national.com/; ComponentLink2Description: LM2575 Datasheet; ComponentLink2URL: http://www.national.com/ds/LM/LM2575.pdf; ComponentLink3Description: LM2575 Web Page; ComponentLink3URL: http://www.national.com/pf/LM/LM2575.html; ComponentLink4Description: TS5B Package Page; ComponentLink4URL: http://www.national.com/packaging/folders/ts5b.html
footprint TS5B_N (D2-PAK, 6-Leads, Body 8.6x10.2mm, Pitch 1.7mm, Lead Span 14.1mm, IPC Medium Density)
footprint TS5B_L (D2-PAK, 6-Leads, Body 8.6x10.2mm, Pitch 1.7mm, Lead Span 14.1mm, IPC High Density)
footprint TS5B_M (D2-PAK, 6-Leads, Body 8.6x10.2mm, Pitch 1.7mm, Lead Span 14.1mm, IPC Low Density)
pins: 1 VIN (power), 2 OUT (power), 3 GND (power), 4 FB (in), 5 ~{ON}/OFF (in), 6 TAB (power)

## LM2575T-3.3
designator U?
SIMPLE SWITCHER® 1A Step-Down Voltage Regulator, 5-pin TO-220; PartNumber: LM2575T-3.3; Manufacturer: National Semiconductor; PackageTopMarking: NSUZXYTTE#*LM2575T*-3.3 P+; PowerWise: N; High-Reliability: Y; DatasheetVersion: Apr-2007; PackageVersion: revJ, Jan-1992; PackageReference: T05A; PackageDescription: TO-220, Molded, 5 Lead, Straight; RoHS: N; PinCount: 5; CompType: Switcher; Code_JEDEC: TO-220-AB; ComponentLink1Description: Manufacturer URL; ComponentLink1URL: http://www.national.com/; ComponentLink2Description: LM2575 Datasheet; ComponentLink2URL: http://www.national.com/ds/LM/LM2575.pdf; ComponentLink3Description: LM2575 Web Page; ComponentLink3URL: http://www.national.com/pf/LM/LM2575.html; ComponentLink4Description: T05A Package Page; ComponentLink4URL: http://www.national.com/packaging/folders/t05a.html
footprint T05A (TO, Thru-Hole, Vertical, Heatsink Mounted; 5 In-Line Leads; Pitch 1.70 mm)
pins: 1 VIN (power), 2 OUT (power), 3 GND (power), 4 FB (in), 5 ~{ON}/OFF (in)

## LM2575T-3.3/NOPB
designator U?
SIMPLE SWITCHER® 1A Step-Down Voltage Regulator, 5-pin TO-220, Pb-Free; PartNumber: LM2575T-3.3/NOPB; Manufacturer: National Semiconductor; PackageTopMarking: NSUZXYTTE#*LM2575T*-3.3 P+; PowerWise: N; High-Reliability: Y; DatasheetVersion: Apr-2007; PackageVersion: revJ, Jan-1992; PackageReference: T05A; PackageDescription: TO-220, Molded, 5 Lead, Straight; RoHS: Y; PinCount: 5; CompType: Switcher; Code_JEDEC: TO-220-AB; ComponentLink1Description: Manufacturer URL; ComponentLink1URL: http://www.national.com/; ComponentLink2Description: LM2575 Datasheet; ComponentLink2URL: http://www.national.com/ds/LM/LM2575.pdf; ComponentLink3Description: LM2575 Web Page; ComponentLink3URL: http://www.national.com/pf/LM/LM2575.html; ComponentLink4Description: T05A Package Page; ComponentLink4URL: http://www.national.com/packaging/folders/t05a.html
footprint T05A (TO, Thru-Hole, Vertical, Heatsink Mounted; 5 In-Line Leads; Pitch 1.70 mm)
pins: 1 VIN (power), 2 OUT (power), 3 GND (power), 4 FB (in), 5 ~{ON}/OFF (in)

## LM2575T-5.0
designator U?
SIMPLE SWITCHER® 1A Step-Down Voltage Regulator, 5-pin TO-220; PartNumber: LM2575T-5.0; Manufacturer: National Semiconductor; PackageTopMarking: NSUZXYTTE#*LM2575T*-5.0 P+; PowerWise: N; High-Reliability: Y; DatasheetVersion: Apr-2007; PackageVersion: revJ, Jan-1992; PackageReference: T05A; PackageDescription: TO-220, Molded, 5 Lead, Straight; RoHS: N; PinCount: 5; CompType: Switcher; Code_JEDEC: TO-220-AB; ComponentLink1Description: Manufacturer URL; ComponentLink1URL: http://www.national.com/; ComponentLink2Description: LM2575 Datasheet; ComponentLink2URL: http://www.national.com/ds/LM/LM2575.pdf; ComponentLink3Description: LM2575 Web Page; ComponentLink3URL: http://www.national.com/pf/LM/LM2575.html; ComponentLink4Description: T05A Package Page; ComponentLink4URL: http://www.national.com/packaging/folders/t05a.html
footprint T05A (TO, Thru-Hole, Vertical, Heatsink Mounted; 5 In-Line Leads; Pitch 1.70 mm)
pins: 1 VIN (power), 2 OUT (power), 3 GND (power), 4 FB (in), 5 ~{ON}/OFF (in)

## LM2575T-5.0/NOPB
designator U?
SIMPLE SWITCHER® 1A Step-Down Voltage Regulator, 5-pin TO-220, Pb-Free; PartNumber: LM2575T-5.0/NOPB; Manufacturer: National Semiconductor; PackageTopMarking: NSUZXYTTE#*LM2575T*-5.0 P+; PowerWise: N; High-Reliability: Y; DatasheetVersion: Apr-2007; PackageVersion: revJ, Jan-1992; PackageReference: T05A; PackageDescription: TO-220, Molded, 5 Lead, Straight; RoHS: Y; PinCount: 5; CompType: Switcher; Code_JEDEC: TO-220-AB; ComponentLink1Description: Manufacturer URL; ComponentLink1URL: http://www.national.com/; ComponentLink2Description: LM2575 Datasheet; ComponentLink2URL: http://www.national.com/ds/LM/LM2575.pdf; ComponentLink3Description: LM2575 Web Page; ComponentLink3URL: http://www.national.com/pf/LM/LM2575.html; ComponentLink4Description: T05A Package Page; ComponentLink4URL: http://www.national.com/packaging/folders/t05a.html
footprint T05A (TO, Thru-Hole, Vertical, Heatsink Mounted; 5 In-Line Leads; Pitch 1.70 mm)
pins: 1 VIN (power), 2 OUT (power), 3 GND (power), 4 FB (in), 5 ~{ON}/OFF (in)

## LM2575T-12
designator U?
SIMPLE SWITCHER® 1A Step-Down Voltage Regulator, 5-pin TO-220; PartNumber: LM2575T-12; Manufacturer: National Semiconductor; PackageTopMarking: NSUZXYTTE#*LM2575T*-12 P+; PowerWise: N; High-Reliability: Y; DatasheetVersion: Apr-2007; PackageVersion: revJ, Jan-1992; PackageReference: T05A; PackageDescription: TO-220, Molded, 5 Lead, Straight; RoHS: N; PinCount: 5; CompType: Switcher; Code_JEDEC: TO-220-AB; ComponentLink1Description: Manufacturer URL; ComponentLink1URL: http://www.national.com/; ComponentLink2Description: LM2575 Datasheet; ComponentLink2URL: http://www.national.com/ds/LM/LM2575.pdf; ComponentLink3Description: LM2575 Web Page; ComponentLink3URL: http://www.national.com/pf/LM/LM2575.html; ComponentLink4Description: T05A Package Page; ComponentLink4URL: http://www.national.com/packaging/folders/t05a.html
footprint T05A (TO, Thru-Hole, Vertical, Heatsink Mounted; 5 In-Line Leads; Pitch 1.70 mm)
pins: 1 VIN (power), 2 OUT (power), 3 GND (power), 4 FB (in), 5 ~{ON}/OFF (in)

## LM2575T-12/NOPB
designator U?
SIMPLE SWITCHER® 1A Step-Down Voltage Regulator, 5-pin TO-220, Pb-Free; PartNumber: LM2575T-12/NOPB; Manufacturer: National Semiconductor; PackageTopMarking: NSUZXYTTE#*LM2575T*-12 P+; PowerWise: N; High-Reliability: Y; DatasheetVersion: Apr-2007; PackageVersion: revJ, Jan-1992; PackageReference: T05A; PackageDescription: TO-220, Molded, 5 Lead, Straight; RoHS: Y; PinCount: 5; CompType: Switcher; Code_JEDEC: TO-220-AB; ComponentLink1Description: Manufacturer URL; ComponentLink1URL: http://www.national.com/; ComponentLink2Description: LM2575 Datasheet; ComponentLink2URL: http://www.national.com/ds/LM/LM2575.pdf; ComponentLink3Description: LM2575 Web Page; ComponentLink3URL: http://www.national.com/pf/LM/LM2575.html; ComponentLink4Description: T05A Package Page; ComponentLink4URL: http://www.national.com/packaging/folders/t05a.html
footprint T05A (TO, Thru-Hole, Vertical, Heatsink Mounted; 5 In-Line Leads; Pitch 1.70 mm)
pins: 1 VIN (power), 2 OUT (power), 3 GND (power), 4 FB (in), 5 ~{ON}/OFF (in)

## LM2575T-15
designator U?
SIMPLE SWITCHER® 1A Step-Down Voltage Regulator, 5-pin TO-220; PartNumber: LM2575T-15; Manufacturer: National Semiconductor; PackageTopMarking: NSUZXYTTE#*LM2575T*-15 P+; PowerWise: N; High-Reliability: Y; DatasheetVersion: Apr-2007; PackageVersion: revJ, Jan-1992; PackageReference: T05A; PackageDescription: TO-220, Molded, 5 Lead, Straight; RoHS: N; PinCount: 5; CompType: Switcher; Code_JEDEC: TO-220-AB; ComponentLink1Description: Manufacturer URL; ComponentLink1URL: http://www.national.com/; ComponentLink2Description: LM2575 Datasheet; ComponentLink2URL: http://www.national.com/ds/LM/LM2575.pdf; ComponentLink3Description: LM2575 Web Page; ComponentLink3URL: http://www.national.com/pf/LM/LM2575.html; ComponentLink4Description: T05A Package Page; ComponentLink4URL: http://www.national.com/packaging/folders/t05a.html
footprint T05A (TO, Thru-Hole, Vertical, Heatsink Mounted; 5 In-Line Leads; Pitch 1.70 mm)
pins: 1 VIN (power), 2 OUT (power), 3 GND (power), 4 FB (in), 5 ~{ON}/OFF (in)

## LM2575T-15/NOPB
designator U?
SIMPLE SWITCHER® 1A Step-Down Voltage Regulator, 5-pin TO-220, Pb-Free; PartNumber: LM2575T-15/NOPB; Manufacturer: National Semiconductor; PackageTopMarking: NSUZXYTTE#*LM2575T*-15 P+; PowerWise: N; High-Reliability: Y; DatasheetVersion: Apr-2007; PackageVersion: revJ, Jan-1992; PackageReference: T05A; PackageDescription: TO-220, Molded, 5 Lead, Straight; RoHS: Y; PinCount: 5; CompType: Switcher; Code_JEDEC: TO-220-AB; ComponentLink1Description: Manufacturer URL; ComponentLink1URL: http://www.national.com/; ComponentLink2Description: LM2575 Datasheet; ComponentLink2URL: http://www.national.com/ds/LM/LM2575.pdf; ComponentLink3Description: LM2575 Web Page; ComponentLink3URL: http://www.national.com/pf/LM/LM2575.html; ComponentLink4Description: T05A Package Page; ComponentLink4URL: http://www.national.com/packaging/folders/t05a.html
footprint T05A (TO, Thru-Hole, Vertical, Heatsink Mounted; 5 In-Line Leads; Pitch 1.70 mm)
pins: 1 VIN (power), 2 OUT (power), 3 GND (power), 4 FB (in), 5 ~{ON}/OFF (in)

## LM2575T-ADJ
designator U?
SIMPLE SWITCHER® 1A Step-Down Voltage Regulator, 5-pin TO-220; PartNumber: LM2575T-ADJ; Manufacturer: National Semiconductor; PackageTopMarking: NSUZXYTTE#*LM2575T*-ADJ P+; PowerWise: N; High-Reliability: Y; DatasheetVersion: Apr-2007; PackageVersion: revJ, Jan-1992; PackageReference: T05A; PackageDescription: TO-220, Molded, 5 Lead, Straight; RoHS: N; PinCount: 5; CompType: Switcher; Code_JEDEC: TO-220-AB; ComponentLink1Description: Manufacturer URL; ComponentLink1URL: http://www.national.com/; ComponentLink2Description: LM2575 Datasheet; ComponentLink2URL: http://www.national.com/ds/LM/LM2575.pdf; ComponentLink3Description: LM2575 Web Page; ComponentLink3URL: http://www.national.com/pf/LM/LM2575.html; ComponentLink4Description: T05A Package Page; ComponentLink4URL: http://www.national.com/packaging/folders/t05a.html
footprint T05A (TO, Thru-Hole, Vertical, Heatsink Mounted; 5 In-Line Leads; Pitch 1.70 mm)
pins: 1 VIN (power), 2 OUT (power), 3 GND (power), 4 FB (in), 5 ~{ON}/OFF (in)

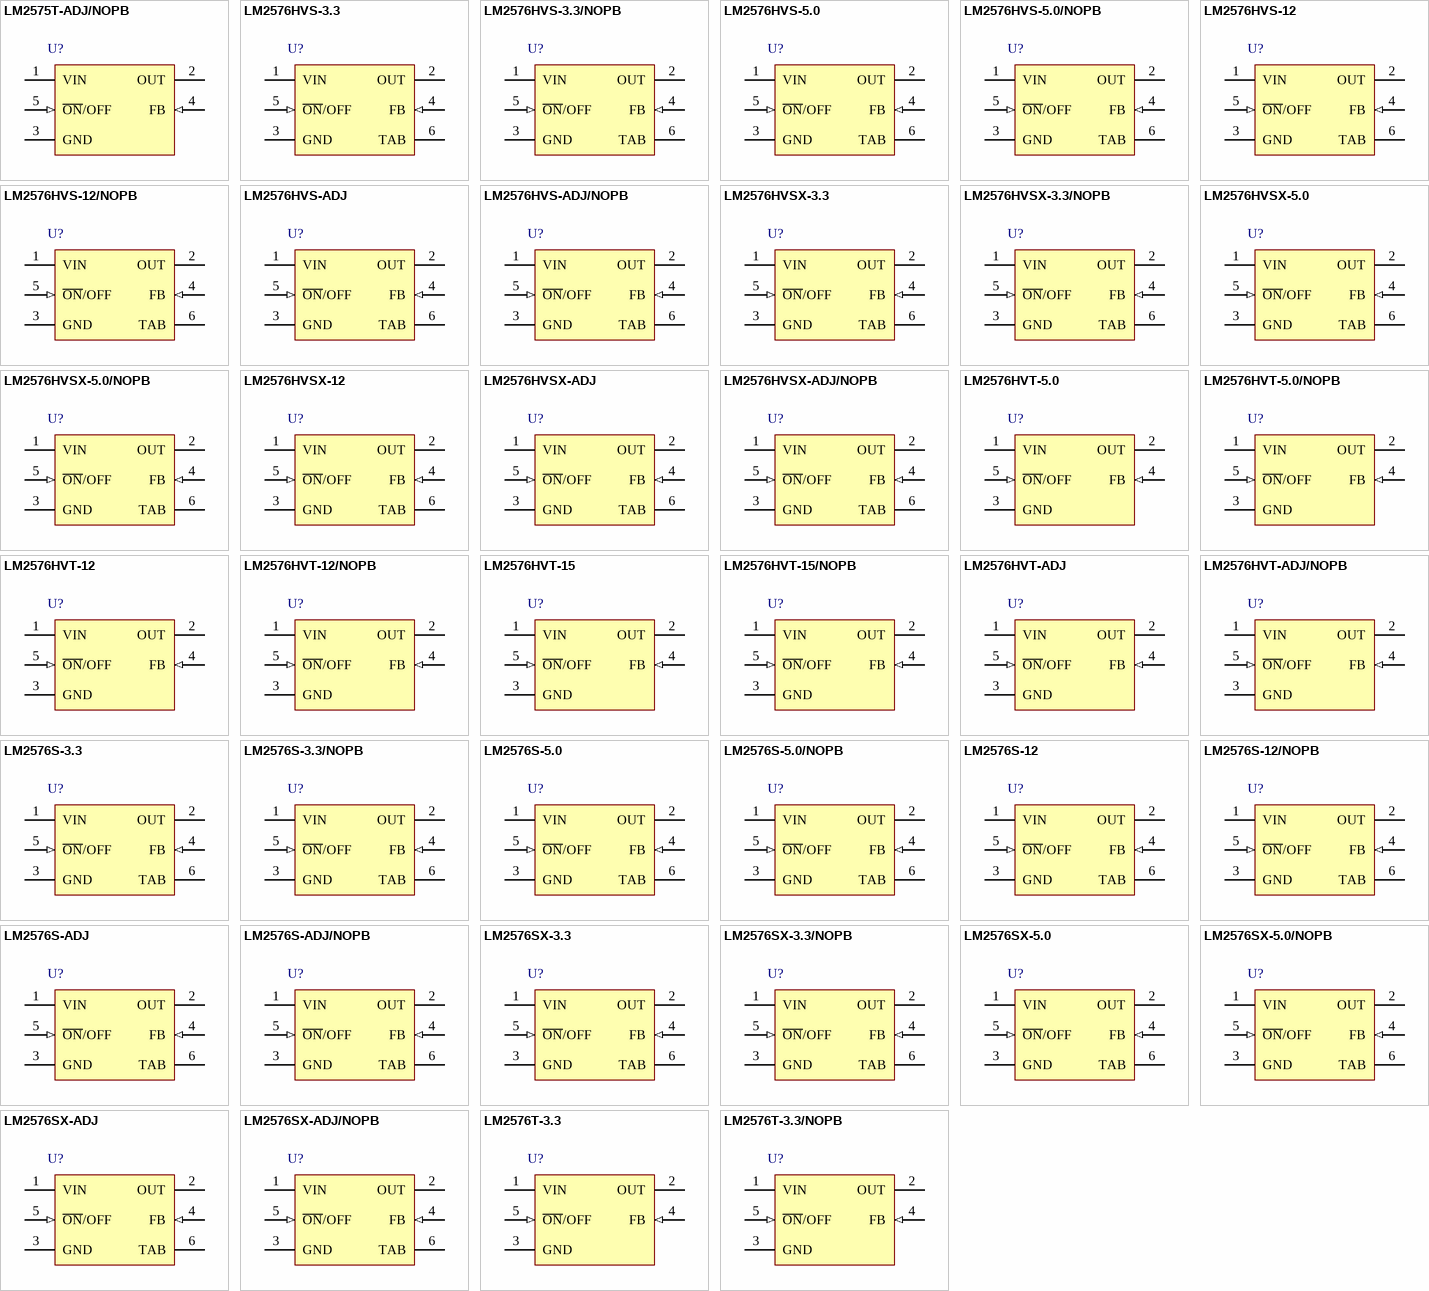
[diagram p4: symbols LM2575T-ADJ/NOPB to LM2576T-3.3/NOPB]

## LM2575T-ADJ/NOPB
designator U?
SIMPLE SWITCHER® 1A Step-Down Voltage Regulator, 5-pin TO-220, Pb-Free; PartNumber: LM2575T-ADJ/NOPB; Manufacturer: National Semiconductor; PackageTopMarking: NSUZXYTTE#*LM2575T*-ADJ P+; PowerWise: N; High-Reliability: Y; DatasheetVersion: Apr-2007; PackageVersion: revJ, Jan-1992; PackageReference: T05A; PackageDescription: TO-220, Molded, 5 Lead, Straight; RoHS: Y; PinCount: 5; CompType: Switcher; Code_JEDEC: TO-220-AB; ComponentLink1Description: Manufacturer URL; ComponentLink1URL: http://www.national.com/; ComponentLink2Description: LM2575 Datasheet; ComponentLink2URL: http://www.national.com/ds/LM/LM2575.pdf; ComponentLink3Description: LM2575 Web Page; ComponentLink3URL: http://www.national.com/pf/LM/LM2575.html; ComponentLink4Description: T05A Package Page; ComponentLink4URL: http://www.national.com/packaging/folders/t05a.html
footprint T05A (TO, Thru-Hole, Vertical, Heatsink Mounted; 5 In-Line Leads; Pitch 1.70 mm)
pins: 1 VIN (power), 2 OUT (power), 3 GND (power), 4 FB (in), 5 ~{ON}/OFF (in)

## LM2576HVS-3.3
designator U?
SIMPLE SWITCHER® 3A Step-Down Voltage Regulator, 5-pin TO-263; PartNumber: LM2576HVS-3.3; Manufacturer: National Semiconductor; PackageTopMarking: NSUZXYTTE#*LM2576*HVS-3.3 P+; PowerWise: N; High-Reliability: Y; DatasheetVersion: Aug-2004; PackageVersion: revD, Apr-2005; PackageReference: TS5B; PackageDescription: TO-263, Molded, .400 x .390 x .180in, 5 Lead, .067in Pitch, Surface Mount; RoHS: N; PinCount: 5; CompType: Switcher; Code_JEDEC: MO-169-AB; ComponentLink1Description: Manufacturer URL; ComponentLink1URL: http://www.national.com/; ComponentLink2Description: LM2576HV Datasheet; ComponentLink2URL: http://www.national.com/ds/LM/LM2576HV.pdf; ComponentLink3Description: LM2576HV Web Page; ComponentLink3URL: http://www.national.com/pf/LM/LM2576HV.html; ComponentLink4Description: TS5B Package Page; ComponentLink4URL: http://www.national.com/packaging/folders/ts5b.html
footprint TS5B_N (D2-PAK, 6-Leads, Body 8.6x10.2mm, Pitch 1.7mm, Lead Span 14.1mm, IPC Medium Density)
footprint TS5B_L (D2-PAK, 6-Leads, Body 8.6x10.2mm, Pitch 1.7mm, Lead Span 14.1mm, IPC High Density)
footprint TS5B_M (D2-PAK, 6-Leads, Body 8.6x10.2mm, Pitch 1.7mm, Lead Span 14.1mm, IPC Low Density)
pins: 1 VIN (power), 2 OUT (power), 3 GND (power), 4 FB (in), 5 ~{ON}/OFF (in), 6 TAB (power)

## LM2576HVS-3.3/NOPB
designator U?
SIMPLE SWITCHER® 3A Step-Down Voltage Regulator, 5-pin TO-263, Pb-Free; PartNumber: LM2576HVS-3.3/NOPB; Manufacturer: National Semiconductor; PackageTopMarking: NSUZXYTTE#*LM2576*HVS-3.3 P+; PowerWise: N; High-Reliability: Y; DatasheetVersion: Aug-2004; PackageVersion: revD, Apr-2005; PackageReference: TS5B; PackageDescription: TO-263, Molded, .400 x .390 x .180in, 5 Lead, .067in Pitch, Surface Mount; RoHS: Y; PinCount: 5; CompType: Switcher; Code_JEDEC: MO-169-AB; ComponentLink1Description: Manufacturer URL; ComponentLink1URL: http://www.national.com/; ComponentLink2Description: LM2576HV Datasheet; ComponentLink2URL: http://www.national.com/ds/LM/LM2576HV.pdf; ComponentLink3Description: LM2576HV Web Page; ComponentLink3URL: http://www.national.com/pf/LM/LM2576HV.html; ComponentLink4Description: TS5B Package Page; ComponentLink4URL: http://www.national.com/packaging/folders/ts5b.html
footprint TS5B_N (D2-PAK, 6-Leads, Body 8.6x10.2mm, Pitch 1.7mm, Lead Span 14.1mm, IPC Medium Density)
footprint TS5B_L (D2-PAK, 6-Leads, Body 8.6x10.2mm, Pitch 1.7mm, Lead Span 14.1mm, IPC High Density)
footprint TS5B_M (D2-PAK, 6-Leads, Body 8.6x10.2mm, Pitch 1.7mm, Lead Span 14.1mm, IPC Low Density)
pins: 1 VIN (power), 2 OUT (power), 3 GND (power), 4 FB (in), 5 ~{ON}/OFF (in), 6 TAB (power)